# Altium schematic symbol library 235-403.Schlib: 1 symbol
Pins are listed as number, name and electrical type; pins without a type are passive.

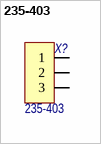
[diagram p0: symbol 235-403]

## 235-403
designator X?, comment Наименование: 235-403  (hidden comment: Terminal Strips)
Single-Conductor Terminal Strips 2.5 mm2 / /AWG 14 “s“, Series 235, / Pin Spacings 5/5.08 mm/0.2 in; Потребление, Вт: 0,0; Назначение: Single-Conductor Terminal Strips 2.5 mm2; ComponentLink1Description: DataSheet; ComponentLink1URL: http://www.farnell.com/datasheets/35986.pdf
footprint 235-403 (Pin Spacings 5/5.08 mm/0.2 in)
pins: 1, 2, 3